# Altium footprint library LEDCube1.PcbLib: 17 footprints (part 2 of 2)
Each footprint in its own frame and in the unit in brackets; x right, y up, seen from the top. Pads: shape width x height; smd on the part's side, far side on the other; paste and mask are expansions set on the pad; w line width, h text height; cw(c..) or ccw(c..) is an arc to the next point about the centre after c.
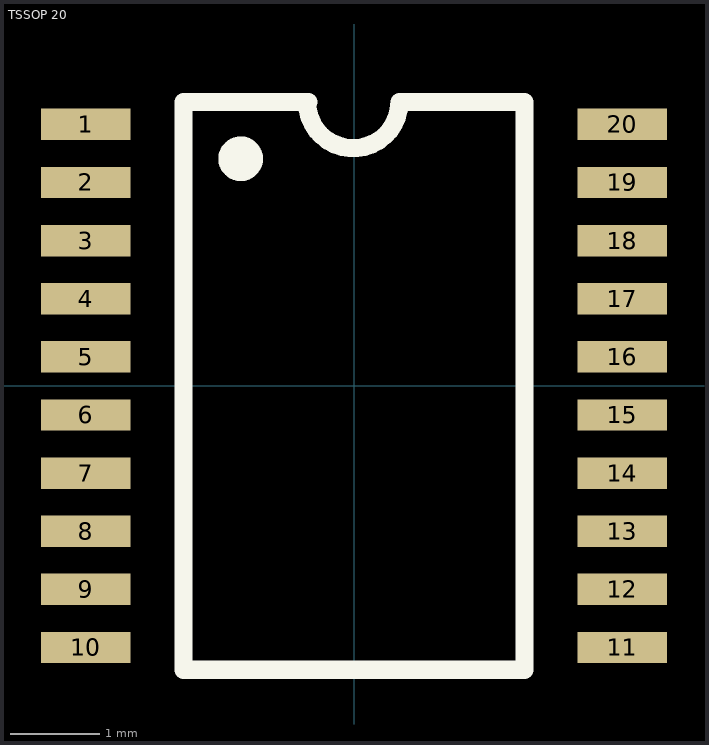
[diagram p1: the footprint, top view; thin cyan lines are the x and y axes]

## TSSOP 20 [mm]
pads (20):
  rect 1x0.35 smd: 1(-3,2.925) 2(-3,2.275) 3(-3,1.625) 4(-3,0.975) 5(-3,0.325) 6(-3,-0.325) 7(-3,-0.975) 8(-3,-1.625) 9(-3,-2.275) 10(-3,-2.925) 11(3,-2.925) 12(3,-2.275) 13(3,-1.625) 14(3,-0.975) 15(3,-0.325) 16(3,0.325) 17(3,0.975) 18(3,1.625) 19(3,2.275) 20(3,2.925)
Top Overlay:
  circle w0.25: c-1.268,2.54 r0.125
  lines w0.203: -0.525,3.175 ccw(c-0.009,3.175) 0.508,3.175 1.905,3.175 1.905,-3.175 -1.905,-3.175 -1.905,3.175 -1.287,3.175 -0.508,3.175
3D body: height 1.2, standoff 0, extent -3.275,-3.3 3.275,3.3